# EAGLE library part TEA1721 (library nxp_60)
HV start-up flyback controller with integrated MOSFET for 5 W applications The TEA1721 is a small and low cost module Switched Mode Power Supply (SMPS) controller IC for low power applications (up to 5 W) and operates directly from the rectified universal mains input. The device includes a high voltage power switch (700 V) and has been optimized for flyback converter topologies to provide high-efficiency over the entire load range with ultra-low power consumption in the no-load condition. It provides a circuit for start-up directly from the rectified mains voltage without any external bleeder circuits. The converter operates as a regulated voltage source from no-load up to the maximum output current and operates as current source that delivers the maximum current over a broad output voltage range. Using the TEA1721, a low power converter can be built at minimum cost and with the minimum number of external components. The controller regulates the output voltage with primary-side sensing which eliminates the need for an additional secondary feedback circuitry and simplifies the design. At higher power levels, a frequency and current control mode is used. It operates with Burst mode control at low power levels and no-load condition. The burst mode minimizes audible noise and provides an energy saver state which reduces the power consumption in no-load condition. AAL Eindhoven MK
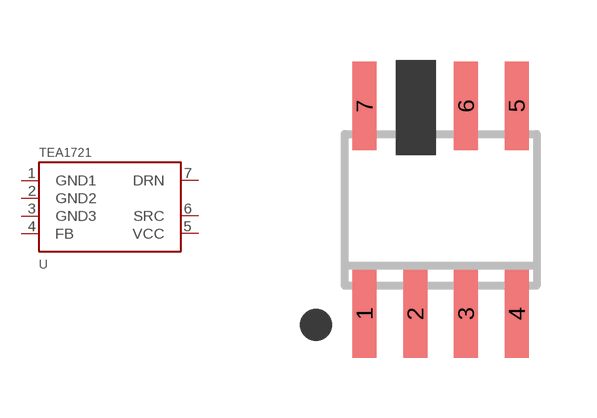
[diagram p1: symbol with the pads of SOT1175-1; footprint SOT1175-1]

Designator prefix U

## TEA1721AT (12NC: 9352 968 88118; BURST: 430 Hz), TEA1721BT (12NC: 9352 968 94118; BURST: 905 Hz), TEA1721DT (12NC: 9352 968 89118; BURST: 1270 Hz), TEA1721FT (12NC: 9352 968 87118; BURST: 1750 Hz)  [SOT1175-1]
1  GND1  pwr
2  GND2  pwr
3  GND3  pwr
4  FB
5  VCC  pwr
6  SRC  in
7  DRN  out

## Footprint SOT1175-1 (pad centres in mm)
SOT1175-1 SO7: plastic small outline package; 7 leads; body width 3.9 m JEDEC: --- IEC: ---
smd 0.6 x 2.2: 1 -1.905,-2.6; 2 -0.635,-2.6; 3 0.635,-2.6; 4 1.905,-2.6; 5 1.905,2.6; 6 0.635,2.6; 7 -1.905,2.6